# Altium schematic symbol library Schlib1.SchLib: 1 symbol
Pins are listed as number, name and electrical type; pins without a type are passive.

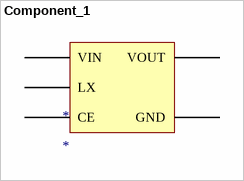
[diagram p0: symbol Component_1]

## Component_1
designator *
footprint WLCSP-8-P1 (BGA, 9-Leads, Body 1.45x1.48mmx0.40mm, Pitch 0.40mm)
pins: A1, B1 VIN, A2 VOUT, A3 CE, C1 LX, C2, B3, C3 GND